# EAGLE library part LT3572 (library PowerProducts)
LT-Spice library generated with : ltspice.ulp from: E:/Programme/LTC/LTspiceIV/lib/sym/PowerProducts/LT3573*.asy at 05.10.2012 12:31:07
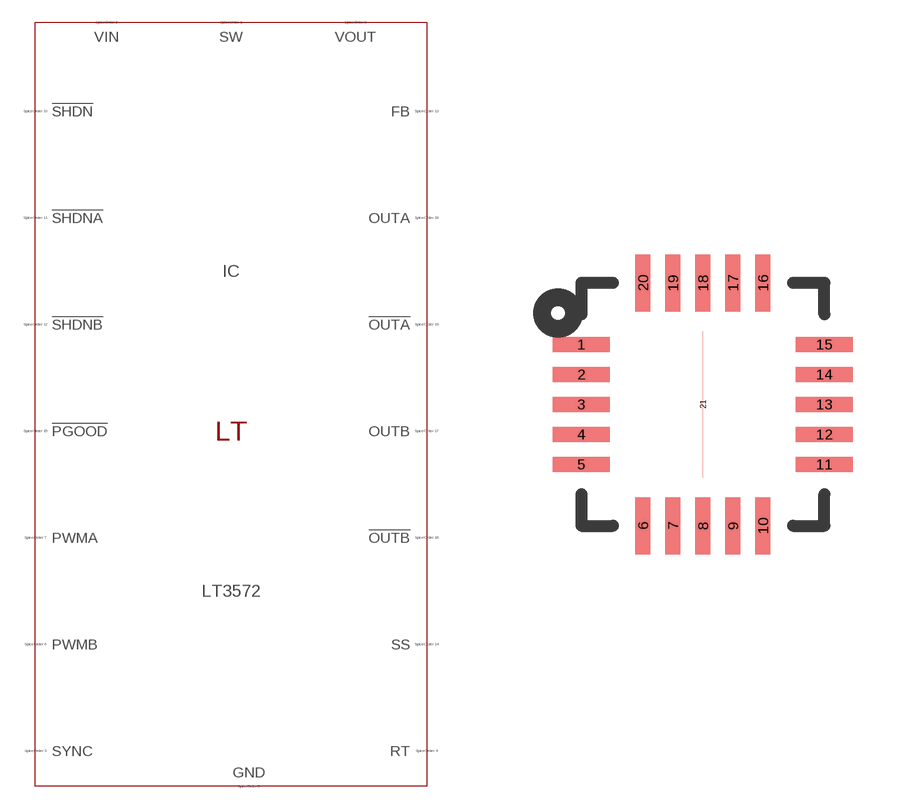
[diagram p73: symbol with the pads of QFN20(UF); footprint QFN20(UF)]

Designator prefix IC

## LT3572 (SPICEMODEL: LT3572.sub; SPICEPREFIX: X; VALUE2: LT3572)  [QFN20(UF)]
1  SW  pas
2  VIN  pas
3  SYNC  pas
4  RT  pas
5  GND  pas
6  PWMB  pas
7  PWMA  pas
8  VOUT  pas
9  GND  pas
10  !SHDN  pas
11  !SHDNA  pas
12  !SHDNB  pas
13  FB  pas
14  SS  pas
15  !PGOOD  pas
16  !OUTB  pas
17  OUTB  pas
18  OUTA  pas
19  !OUTA  pas
20  GND  pas
21  GND  pas

## Footprint QFN20(UF) (pad centres in mm)
Package generated from: QFN20(UF).asc (!PADS-POWERPCB-V9.3-BASIC! DESIGN DATABASE ASCII FILE 1.0) with :import-pads-powerpcb-v5.ulp Version 1.0.1 at 04.10.2012 14:11:23
smd 1.425 x 0.375: 1 -3.038,1.5; 2 -3.038,0.75; 3 -3.038,0; 4 -3.038,-0.75; 5 -3.038,-1.5; 11 3.038,-1.5; 12 3.038,-0.75; 13 3.038,0; 14 3.038,0.75; 15 3.038,1.5
smd 0.375 x 1.425: 6 -1.5,-3.038; 7 -0.75,-3.038; 8 0,-3.038; 9 0.75,-3.038; 10 1.5,-3.038; 16 1.5,3.038; 17 0.75,3.038; 18 0,3.038; 19 -0.75,3.038; 20 -1.5,3.038
smd 0 x 3.675: 21 0,0